# Altium footprint library Arduino.PcbLib: 3 footprints
Each footprint in its own frame and in the unit in brackets; x right, y up, seen from the top. Pads: shape width x height; smd on the part's side, far side on the other; paste and mask are expansions set on the pad; w line width, h text height; cw(c..) or ccw(c..) is an arc to the next point about the centre after c.
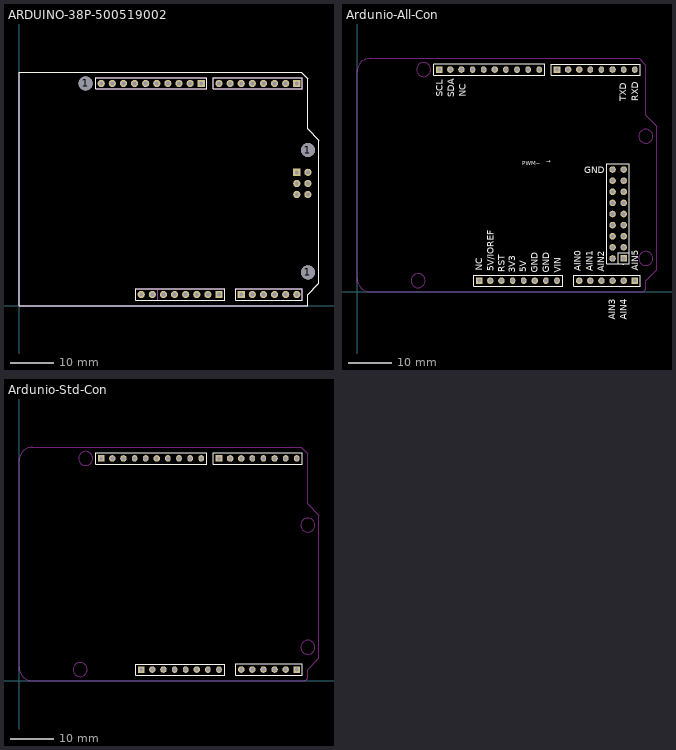
[diagram p0: the footprints below, top view; thin cyan lines are the x and y axes]

## ARDUINO-38P-500519002 [mil] "ARDUINO-38P-500519002"
pads (41):
  round 126 hole 126: 1(600,2000) 1(2600,300) 1(2600,1400)
  rect 65x65 hole 35: 1(2500,2000) 9(1640,2000) 19(2000,100) 25(1800,100) 38(2500,1200)
  round 65 hole 35: 2(2400,2000) 3(2300,2000) 4(2200,2000) 5(2100,2000) 6(2000,2000) 7(1900,2000) 8(1800,2000) 10(1540,2000) 11(1440,2000) 12(1340,2000) 13(1240,2000) 14(1140,2000) 15(1040,2000) 16(940,2000) 17(840,2000) 18(740,2000) 20(2100,100) 21(2200,100) 22(2300,100) 23(2400,100) 24(2500,100) 26(1700,100) 27(1600,100) 28(1500,100) 29(1400,100) 30(1300,100) 31(1200,100) 32(1100,100) 33(2600,1200) 34(2600,1100) 35(2600,1000) 36(2500,1000) 37(2500,1100)
Top Overlay:
  lines w5: 0,0 0,2100 2540,2100 2600,2040 2600,1590 2700,1490 2700,200 2600,100 2600,0 0,0 ; 690,1950 690,2050 1690,2050 1690,1950 690,1950 ; 1050,50 1050,150 1850,150 1850,50 1050,50 ; 1750,1950 1750,2050 2550,2050 2550,1950 1750,1950 ; 1950,50 1950,150 2550,150 2550,50 1950,50
Bottom Overlay:
  lines w5: 2450,950 2450,1250 2650,1250 2650,950 2450,950
Mechanical 14:
  lines w1: 580,2000 620,2000 ; 600,1980 600,2020 ; 920,2000 960,2000 ; 940,1980 940,2020 ; 1020,2000 1060,2000 ; 1040,1980 1040,2020 ; 1080,100 1120,100 ; 1100,80 1100,120 ; 1120,2000 1160,2000 ; 1140,1980 1140,2020 ; 1180,100 1220,100 ; 1200,80 1200,120 ; 1220,2000 1260,2000 ; 1240,1980 1240,2020 ; 1280,100 1320,100 ; 1300,80 1300,120 ; 1320,2000 1360,2000 ; 1340,1980 1340,2020 ; 1380,100 1420,100 ; 1400,80 1400,120 ; 1420,2000 1460,2000 ; 1440,1980 1440,2020 ; 1480,100 1520,100 ; 1500,80 1500,120 ; 1520,2000 1560,2000 ; 1540,1980 1540,2020 ; 1580,100 1620,100 ; 1600,80 1600,120 ; 1620,2000 1660,2000 ; 1640,1980 1640,2020 ; 1680,100 1720,100 ; 1700,80 1700,120 ; 1780,100 1820,100 ; 1780,2000 1820,2000 ; 1800,80 1800,120 ; 1800,1980 1800,2020 ; 1880,2000 1920,2000 ; 1900,1980 1900,2020 ; 1980,100 2020,100 ; 1980,2000 2020,2000 ; 2000,80 2000,120 ; 2000,1980 2000,2020 ; 2080,100 2120,100 ; 2080,2000 2120,2000 ; 2100,80 2100,120 ; 2100,1980 2100,2020 ; 2180,100 2220,100 ; 2180,2000 2220,2000 ; 2200,80 2200,120 ; 2200,1980 2200,2020 ; 2280,100 2320,100 ; 2280,2000 2320,2000 ; 2300,80 2300,120 ; 2300,1980 2300,2020 ; 2380,100 2420,100 ; 2380,2000 2420,2000 ; 2400,80 2400,120 ; 2400,1980 2400,2020 ; 2480,100 2520,100 ; 2480,1000 2520,1000 ; 2480,1100 2520,1100 ; 2480,1200 2520,1200 ; 2480,2000 2520,2000 ; 2500,80 2500,120 ; 2500,980 2500,1020 ; 2500,1080 2500,1120 ; 2500,1180 2500,1220 ; 2500,1980 2500,2020 ; 2580,1000 2620,1000 ; 2580,1100 2620,1100 ; 2580,1200 2620,1200 ; 2580,1400 2620,1400 ; 2600,980 2600,1020 ; 2600,1080 2600,1120 ; 2600,1180 2600,1220 ; 2600,1380 2600,1420
  lines w5: 1250,50 1250,150 ; 1250,50 1850,50 1850,150 1250,150 ; 1250,50 1050,50 1050,150 1250,150 ; 0,0 2600,0 2600,100 2700,200 2700,1490 2600,1590 2600,2040 2540,2100 0,2100 0,0 ; 690,1950 690,2050 890,2050 1690,2050 1690,1950 890,1950 690,1950 ; 1750,1950 2550,1950 2550,2050 1750,2050 1750,1950 ; 1950,50 1950,150 2550,150 2550,50 1950,50

## Ardunio-All-Con [mm]
pads (50):
  rect 1.5x1.5 hole 0.9: 1(18.796,50.8) 1(27.94,2.54) 1(45.72,50.8) 1(60.96,7.62) 1(63.5,2.54)
  round 1.5 hole 0.9: 2(21.336,50.8) 2(30.48,2.54) 2(48.26,50.8) 2(58.42,7.62) 2(60.96,2.54) 3(23.876,50.8) 3(33.02,2.54) 3(50.8,50.8) 3(58.42,2.54) 3(60.96,10.16) 4(55.88,2.54) 4(58.42,10.16) 5(53.34,2.54) 5(60.96,12.7) 6(31.496,50.8) 6(40.64,2.54) 6(50.8,2.54) 6(58.42,50.8) 6(58.42,12.7) 7(60.96,15.24) 8(58.42,15.24) 9(60.96,17.78) 10(58.42,17.78) 11(60.96,20.32) 12(58.42,20.32) 13(60.96,22.86) 14(58.42,22.86) 15(60.96,25.4) 16(58.42,25.4) 17(60.96,27.94) 18(58.42,27.94)
  oval 1.27x1.5 hole 0.9: 4(26.416,50.8) 4(35.56,2.54) 4(53.34,50.8) 5(28.956,50.8) 5(38.1,2.54) 5(55.88,50.8) 7(34.036,50.8) 7(43.18,2.54) 7(60.96,50.8) 8(36.576,50.8) 8(45.72,2.54) 8(63.5,50.8) 9(39.116,50.8) 10(41.656,50.8)
Top Overlay:
  region: 61.087,6.096 61.087,6.477 60.706,6.477 60.706,6.096
  lines w0.2: 59.69,6.35 59.69,8.89 62.23,8.89 ; 17.526,49.53 42.926,49.53 42.926,52.07 17.526,52.07 17.526,49.53 ; 26.67,1.27 46.99,1.27 46.99,3.81 26.67,3.81 26.67,1.27 ; 44.45,49.53 64.77,49.53 64.77,52.07 44.45,52.07 44.45,49.53 ; 49.53,1.27 64.77,1.27 64.77,3.81 49.53,3.81 49.53,1.27 ; 57.15,6.35 62.23,6.35 62.23,29.21 57.15,29.21 57.15,6.35
  text "GND" at 51.943,27.051 h1.52
  text "RXD" at 64.262,43.561 h1.52
  text "TXD" at 61.595,43.561 h1.52
  text "NC" at 24.892,44.577 h1.52
  text "SDA" at 22.225,44.45 h1.52
  text "SCL" at 19.558,44.577 h1.52
  text "VIN" at 46.609,4.318 h1.52
  text "GND" at 43.942,4.318 h1.52
  text "GND" at 41.275,4.318 h1.52
  text "5V" at 38.735,4.445 h1.52
  text "3V3" at 36.195,4.318 h1.52
  text "RST" at 33.782,4.445 h1.52
  text "5V/IOREF" at 31.242,4.699 h1.52
  text "NC" at 28.575,4.826 h1.52
  text "AIN0" at 51.181,4.699 h1.52
  text "AIN1" at 53.848,4.699 h1.52
  text "AIN2" at 56.515,4.572 h1.52
  text "AIN3" at 59.055,-6.35 h1.52
  text "AIN4" at 61.722,-6.35 h1.52
  text "AIN5" at 64.262,4.826 h1.52
  text "PWM~" at 37.719,28.575 h1.52
  text "→" at 43.307,29.083 h1.52
Top Solder:
  text "INT" at 24.765,39.37 h1.52
  text "BAT" at 28.575,9.271 h1.52
Keep-Out Layer:
  circle w0.254: c66.04,7.62 r1.6
  circle w0.254: c15.24,50.8 r1.6
  circle w0.254: c13.97,2.54 r1.6
  circle w0.254: c66.04,35.56 r1.6
  lines w0.254: 0,2.286 0,50.673 ; 0,3.048 ccw(c3.048,3.048) 3.048,0 ; 0,50.292 cw(c3.048,50.292) 3.048,53.34 ; 2.54,0 65.04,0 ccw(c65.04,1) 66.04,1 66.04,2.54 68.58,5.08 68.58,37.846 66.04,40.386 66.04,51.816 64.516,53.34 2.54,53.34
3D body: height 8.65, standoff -2.9, extent 49.53,1.29 57.15,3.79
3D body: height 8.65, standoff -2.9, extent 57.15,1.29 64.77,3.79
3D body: height 8.65, standoff -2.9, extent 17.526,49.55 42.926,52.05
3D body: height 8.65, standoff -2.9, extent 44.45,49.55 54.61,52.05
3D body: height 8.65, standoff -2.9, extent 54.61,49.55 64.77,52.05
3D body: height 8.65, standoff -2.9, extent 26.67,1.29 36.83,3.79
3D body: height 8.65, standoff -2.9, extent 36.83,1.29 46.99,3.79

## Ardunio-Std-Con [mm]
pads (32):
  rect 1.5x1.5 hole 0.9: 1(18.796,50.8) 1(27.94,2.54) 1(45.72,50.8) 1(63.5,2.54)
  round 1.5 hole 0.9: 2(21.336,50.8) 2(30.48,2.54) 2(48.26,50.8) 2(60.96,2.54) 3(23.876,50.8) 3(33.02,2.54) 3(50.8,50.8) 3(58.42,2.54) 4(55.88,2.54) 5(53.34,2.54) 6(31.496,50.8) 6(40.64,2.54) 6(50.8,2.54) 6(58.42,50.8)
  oval 1.27x1.5 hole 0.9: 4(26.416,50.8) 4(35.56,2.54) 4(53.34,50.8) 5(28.956,50.8) 5(38.1,2.54) 5(55.88,50.8) 7(34.036,50.8) 7(43.18,2.54) 7(60.96,50.8) 8(36.576,50.8) 8(45.72,2.54) 8(63.5,50.8) 9(39.116,50.8) 10(41.656,50.8)
Top Overlay:
  lines w0.2: 17.526,49.53 42.926,49.53 42.926,52.07 17.526,52.07 17.526,49.53 ; 26.67,1.27 46.99,1.27 46.99,3.81 26.67,3.81 26.67,1.27 ; 44.45,49.53 64.77,49.53 64.77,52.07 44.45,52.07 44.45,49.53 ; 49.53,1.27 64.77,1.27 64.77,3.81 49.53,3.81 49.53,1.27
Keep-Out Layer:
  circle w0.254: c66.04,7.62 r1.6
  circle w0.254: c15.24,50.8 r1.6
  circle w0.254: c13.97,2.54 r1.6
  circle w0.254: c66.04,35.56 r1.6
  lines w0.254: 0,2.286 0,50.673 ; 0,3.048 ccw(c3.048,3.048) 3.048,0 ; 0,50.292 cw(c3.048,50.292) 3.048,53.34 ; 2.54,0 65.04,0 ccw(c65.04,1) 66.04,1 66.04,2.54 68.58,5.08 68.58,37.846 66.04,40.386 66.04,51.816 64.516,53.34 2.54,53.34
3D body: height 8.65, standoff -2.9, extent 49.53,1.29 57.15,3.79
3D body: height 8.65, standoff -2.9, extent 57.15,1.29 64.77,3.79
3D body: height 8.65, standoff -2.9, extent 17.526,49.55 42.926,52.05
3D body: height 8.65, standoff -2.9, extent 44.45,49.55 54.61,52.05
3D body: height 8.65, standoff -2.9, extent 54.61,49.55 64.77,52.05
3D body: height 8.65, standoff -2.9, extent 26.67,1.29 36.83,3.79
3D body: height 8.65, standoff -2.9, extent 36.83,1.29 46.99,3.79